# Altium schematic symbol library SI5351A-B-GT.SchLib: 1 symbol
Pins are listed as number, name and electrical type; pins without a type are passive.

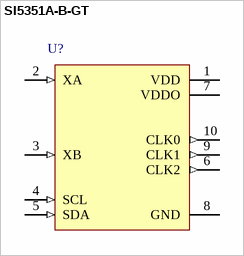
[diagram p0: symbol SI5351A-B-GT]

## SI5351A-B-GT
designator U?
pins: 1 VDD (power), 2 XA (in), 3 XB (in), 4 SCL (in), 5 SDA (in), 6 CLK2 (out), 7 VDDO (power), 8 GND (power), 9 CLK1 (out), 10 CLK0 (out)